# Altium schematic symbol library Schlib1.SchLib: 1 symbol
Pins are listed as number, name and electrical type; pins without a type are passive.

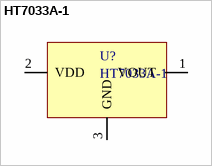
[diagram p0: symbol HT7033A-1]

## HT7033A-1
designator U?
pins: 1 VOUT, 2 VDD, 3 GND